# EAGLE library part CU40056-UW1J (library PP_Displays)
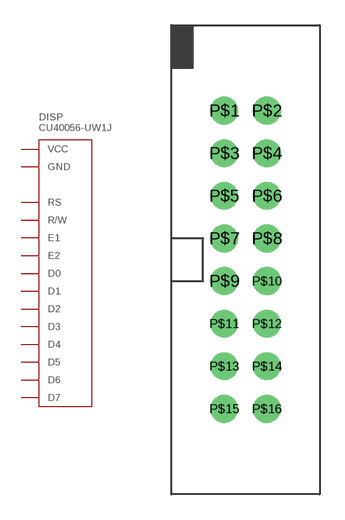
[diagram p4: symbol with the pads of CU40045-UW1J; footprint CU40045-UW1J]

Designator prefix DISP

## CU40056-UW1J  [CU40045-UW1J]
P$1  D6
P$2  D7
P$3  D4
P$4  D5
P$5  D2
P$6  D3
P$7  D0
P$8  D1
P$9  R/W
P$10  E1
P$12  RS
P$13  VCC
P$14  GND
P$16  E2

## Footprint CU40045-UW1J (pad centres in mm)
drill 1.1: P$1 -1.27,8.89; P$2 1.27,8.89; P$3 -1.27,6.35; P$4 1.27,6.35; P$5 -1.27,3.81; P$6 1.27,3.81; P$7 -1.27,1.27; P$8 1.27,1.27; P$9 -1.27,-1.27; P$10 1.27,-1.27; P$11 -1.27,-3.81; P$12 1.27,-3.81; P$13 -1.27,-6.35; P$14 1.27,-6.35; P$15 -1.27,-8.89; P$16 1.27,-8.89